# Altium footprint library B3B-PH-SM4-TBLFSN.PcbLib: 1 footprints
Each footprint in its own frame and in the unit in brackets; x right, y up, seen from the top. Pads: shape width x height; smd on the part's side, far side on the other; paste and mask are expansions set on the pad; w line width, h text height; cw(c..) or ccw(c..) is an arc to the next point about the centre after c.
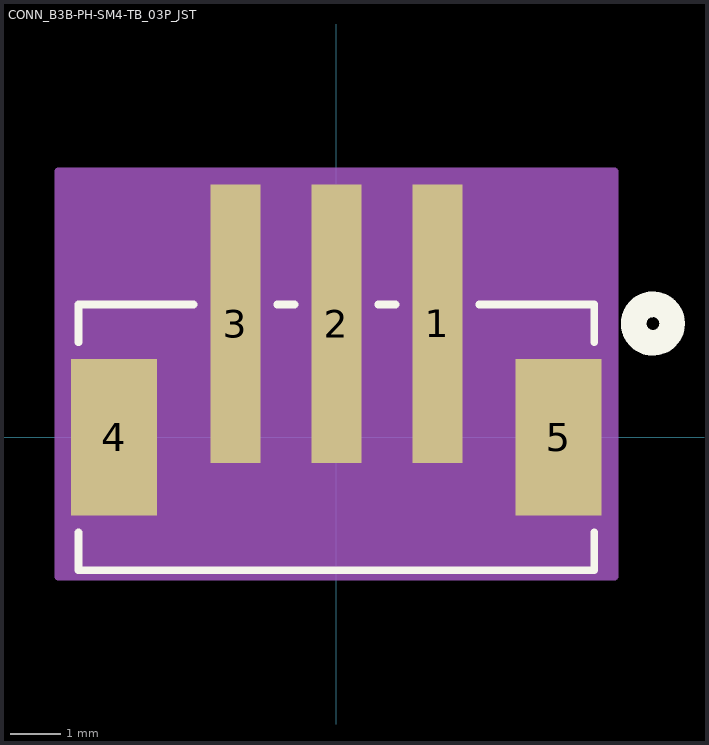
[diagram p0: the footprint, top view; thin cyan lines are the x and y axes]

## CONN_B3B-PH-SM4-TB_03P_JST [mil]
pads (5):
  rect 39x217 smd paste+0 mask+0: 1(78.74,88.66) 2(0,88.66) 3(-78.74,88.66)
  rect 66.93x122 smd paste+0 mask+0: 4(-173.23,0) 5(173.23,0)
Top Overlay:
  circle w20: c246.69,88.66 r15
  lines w6: -201,-74.18 -201,-103.5 201,-103.5 201,-74.18 ; -201,74.02 -201,103.5 -111.34,103.5 ; -46.14,103.5 -32.6,103.5 ; 32.6,103.5 46.14,103.5 ; 111.34,103.5 201,103.5 201,74.02
  text ".Designator" at -137.5,63.66 h50
Bottom Overlay:
  circle w20: c246.69,88.66 r15
Mechanical 13:
  circle w20: c78.74,88.66 r15
  lines w1: -196,-98.5 196,-98.5 196,98.5 -196,98.5 -196,-98.5
  text ".Designator" at -137.5,63.66 h50
Mechanical 15:
  region: 216.69,207.16 -216.69,207.16 -216.69,-108.5 216.69,-108.5
  lines w6: -216.69,-108.5 -216.69,207.16 216.69,207.16 216.69,-108.5 -216.69,-108.5